# EAGLE library part SN74LV4052 (library TI)
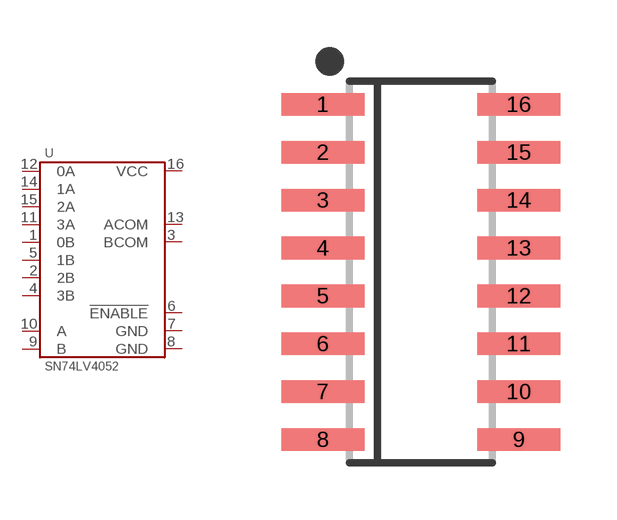
[diagram p21: symbol with the pads of SOIC-16; footprint SOIC-16]

Designator prefix U

## SN74LV4052AD  [SOIC-16]
1  0B
2  2B
3  BCOM
4  3B
5  1B
6  !ENABLE
7  GND
8  GND
9  B
10  A
11  3A
12  0A
13  ACOM
14  1A
15  2A
16  VCC

## Footprint SOIC-16 (pad centres in mm)
smd 2.2 x 0.6: 1 -2.6,4.445; 2 -2.6,3.175; 3 -2.6,1.905; 4 -2.6,0.635; 5 -2.6,-0.635; 6 -2.6,-1.905; 7 -2.6,-3.175; 8 -2.6,-4.445; 9 2.6,-4.445; 10 2.6,-3.175; 11 2.6,-1.905; 12 2.6,-0.635; 13 2.6,0.635; 14 2.6,1.905; 15 2.6,3.175; 16 2.6,4.445